# Altium footprint library Hardware.PcbLib: 23 footprints (part 1 of 2)
Each footprint in its own frame and in the unit in brackets; x right, y up, seen from the top. Pads: shape width x height; smd on the part's side, far side on the other; paste and mask are expansions set on the pad; w line width, h text height; cw(c..) or ccw(c..) is an arc to the next point about the centre after c.
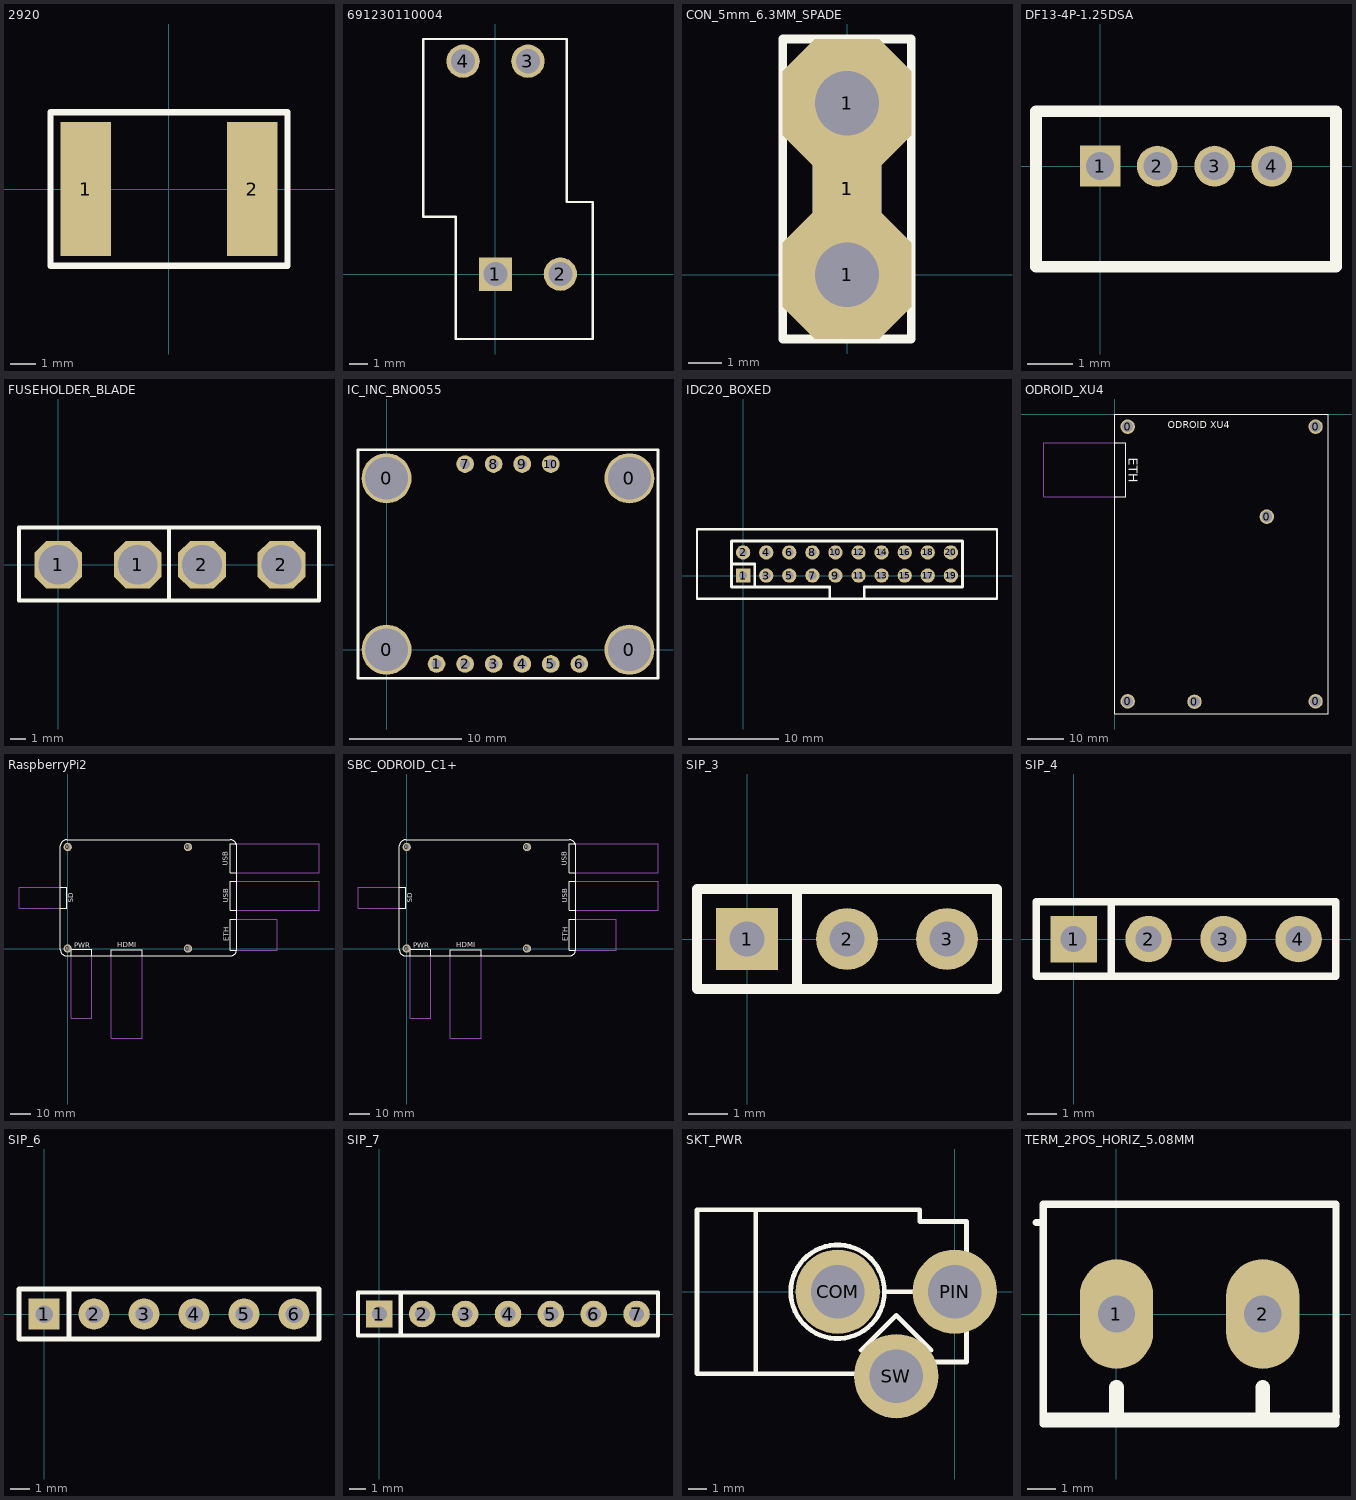
[diagram p0: the footprints below, top view; thin cyan lines are the x and y axes]

## 2920 [mm]
pads (2):
  rect 2x5.3 smd: 1(-3.3,0) 2(3.3,0)
Top Overlay:
  lines w0.254: -4.699,-3.048 4.699,-3.048 4.699,3.048 -4.699,3.048 -4.699,-3.048

## 691230110004 [mm] "3,50mm - modular - 2 rows - Right - horizontal entry with rising cage clamp - 04p"
height 16.2
pads (4):
  rect 1.8x1.8 hole 1.3: 1(0,0)
  round 1.8 hole 1.3: 2(3.5,0) 3(1.75,11.5) 4(-1.75,11.5)
Top Overlay:
  lines w0.127: -3.9,3.1 -3.9,12.7 3.85,12.7 3.85,3.9 5.25,3.9 5.25,-3.5 -2.15,-3.5 -2.15,3.1 -3.9,3.1
3D body: height 16.21, standoff -3.69, extent -3.9,-3.45 5.25,12.65

## CON_5mm_6.3MM_SPADE [mil]
pads (4):
  oct 150x150 hole 75: 1(0,0) 1(0,200)
  rect 80x200 smd: 1(0,100)
  rect 80x200 smd far side: 1(0,100)
Top Overlay:
  lines w10: -75,-75 -75,275 75,275 75,-75 -75,-75
  lines w20: 0,50 0,150

## DF13-4P-1.25DSA [mil]
pads (4):
  rect 35x35 hole 24: 1(0,0)
  round 35 hole 24: 2(49.21,0) 3(98.43,0) 4(147.64,0)
Top Overlay:
  lines w10: -55.12,-43.31 -55.12,47.24 ; 202.76,-43.31 202.76,47.24 ; -55.12,47.24 202.76,47.24 ; -55.12,47.24 -55.12,-86.61 202.76,-86.61 202.76,47.24

## FUSEHOLDER_BLADE [mil]
pads (4):
  oct 120x120 hole 100: 1(0,0) 1(200,0) 2(361.22,0) 2(561.22,0)
Top Overlay:
  lines w10: 278.54,-89.57 278.54,93.5 ; -98.43,-89.57 -98.43,93.5 655.51,93.5 655.51,-89.57 -98.43,-89.57

## IC_INC_BNO055 [mil]
pads (14):
  round 175 hole 150: 0(0,0) 0(0,600) 0(850.39,0) 0(850.39,600)
  round 62 hole 35: 1(175,-50) 2(275,-50) 3(375,-50) 4(475,-50) 5(575,-50) 6(675,-50) 7(275,650) 8(375,650) 9(475,650) 10(575,650)
Top Overlay:
  lines w10: -100,-100 950.39,-100 950.39,700 -100,700 -100,-100

## IDC20_BOXED [mil]
pads (20):
  rect 62x62 hole 35: 1(0,0)
  round 62 hole 35: 2(0,100) 3(100,0) 4(100,100) 5(200,0) 6(200,100) 7(300,0) 8(300,100) 9(400,0) 10(400,100) 11(500,0) 12(500,100) 13(600,0) 14(600,100) 15(700,0) 16(700,100) 17(800,0) 18(800,100) 19(900,0) 20(900,100)
Top Overlay:
  lines w10: -200,-100 1100,-100 1100,200 -200,200 -200,-100
  lines w12: -50,50 50,50 50,-50 ; 375,-100 375,-50 -50,-50 -50,150 950,150 950,-50 525,-50 525,-100

## ODROID_XU4 [mm]
pads (6):
  round 4 hole 3: 0(3.5,-79.5) 0(3.5,-3.5) 0(22,-79.61) 0(42,-28.39) 0(55.5,-79.5) 0(55.5,-3.5)
Top Overlay:
  lines w0.254: 0,-7.892 3,-7.892 3,-15.392 3,-22.892 ; 3,-22.892 0,-22.892 3,-22.892 ; 0,-83 59,-83 59,0 0,0 0,-83
  text "ETH" at 3.8,-12.112 h2.54
  text "ODROID XU4" at 14.6,-4 h1.91
Mechanical 3:
  lines w0.254: 0.31,-22.892 -19.69,-22.892 -19.69,-7.892 0.31,-7.892

## RaspberryPi2 [mm]
pads (4):
  round 4 hole 2.75: 0(0,0) 0(0,49) 0(58,0) 0(58,49)
Top Overlay:
  lines w0.254: -3.508,-0.5 ccw(c-0.508,-0.5) -0.508,-3.5 0,-3.5 78.5,-3.5 ccw(c78.5,-0.5) 81.5,-0.5 81.5,49.508 ccw(c78.5,49.508) 78.5,52.508 -0.5,52.508 ccw(c-0.5,49.508) -3.5,49.508 -3.5,-0.5 ; -0.5,52.5 0,52.5 ; 1.6,-0.254 6.6,-0.254 11.6,-0.254 11.6,-3.5 ; 1.61,-3.5 1.61,-0.254 ; 20.992,-3.5 20.992,-0.5 28.492,-0.5 35.992,-0.5 ; 81.5,-0.75 78.5,-0.75 78.5,6.75 78.5,14.25 ; 35.992,-0.5 35.992,-3.5 35.992,-0.5 ; 78.5,14.25 81.5,14.25 78.5,14.25 ; -3.5,19.5 -3.5,29.5 -0.508,29.5 -0.508,24.5 -0.508,19.5 -3.5,19.5 ; 78.5,18.5 78.5,25.5 78.5,32.5 81.5,32.5 81.5,18.5 78.5,18.5 ; 78.5,36.5 78.5,43.5 78.5,50.5 81.5,50.5 81.5,36.5 78.5,36.5
  text "PWR" at 3.1,0.47 h2.54
  text "HDMI" at 24.02,0.53 h2.54
  text "ETH" at 77.7,3.47 h2.54
  text "USB" at 77.22,40.01 h2.54
  text "USB" at 77.43,22.14 h2.54
  text "SD" at 2.77,22.07 h2.54
Mechanical 3:
  lines w0.254: -3.5,19.5 -23.5,19.5 -23.5,29.5 -3.5,29.5 ; 1.62,-3.5 1.62,-33.5 11.6,-33.5 11.6,-3.5 ; 20.992,-3.25 20.992,-43.25 35.992,-43.25 35.992,-3.25 ; 81.19,-0.75 101.19,-0.75 101.19,14.25 81.19,14.25 ; 81.25,18.5 121.25,18.5 121.25,32.5 81.25,32.5 ; 81.25,36.5 121.25,36.5 121.25,50.5 81.25,50.5

## SBC_ODROID_C1+ [mm]
pads (4):
  round 4 hole 2.75: 0(0,0) 0(0,49) 0(58,0) 0(58,49)
Top Overlay:
  lines w0.254: -3.508,-0.5 ccw(c-0.508,-0.5) -0.508,-3.5 0,-3.5 78.5,-3.5 ccw(c78.5,-0.5) 81.5,-0.5 81.5,49.508 ccw(c78.5,49.508) 78.5,52.508 -0.5,52.508 ccw(c-0.5,49.508) -3.5,49.508 -3.5,-0.5 ; -0.5,52.5 0,52.5 ; 1.6,-0.254 6.6,-0.254 11.6,-0.254 11.6,-3.5 ; 1.61,-3.5 1.61,-0.254 ; 20.992,-3.5 20.992,-0.5 28.492,-0.5 35.992,-0.5 ; 81.5,-0.75 78.5,-0.75 78.5,6.75 78.5,14.25 ; 35.992,-0.5 35.992,-3.5 35.992,-0.5 ; 78.5,14.25 81.5,14.25 78.5,14.25 ; -3.5,19.5 -3.5,29.5 -0.508,29.5 -0.508,24.5 -0.508,19.5 -3.5,19.5 ; 78.5,18.5 78.5,25.5 78.5,32.5 81.5,32.5 81.5,18.5 78.5,18.5 ; 78.5,36.5 78.5,43.5 78.5,50.5 81.5,50.5 81.5,36.5 78.5,36.5
  text "PWR" at 3.1,0.47 h2.54
  text "HDMI" at 24.02,0.53 h2.54
  text "ETH" at 77.7,3.47 h2.54
  text "USB" at 77.22,40.01 h2.54
  text "USB" at 77.43,22.14 h2.54
  text "SD" at 2.77,22.07 h2.54
Mechanical 3:
  lines w0.254: -3.5,19.5 -23.5,19.5 -23.5,29.5 -3.5,29.5 ; 1.62,-3.5 1.62,-33.5 11.6,-33.5 11.6,-3.5 ; 20.992,-3.25 20.992,-43.25 35.992,-43.25 35.992,-3.25 ; 81.19,-0.75 101.19,-0.75 101.19,14.25 81.19,14.25 ; 81.25,18.5 121.25,18.5 121.25,32.5 81.25,32.5 ; 81.25,36.5 121.25,36.5 121.25,50.5 81.25,50.5

## SIP_3 [mil]
pads (3):
  rect 62x62 hole 35: 1(0,0)
  round 62 hole 35: 2(100,0) 3(200,0)
Top Overlay:
  lines w10: 50,-50 50,50 ; -50,-50 250,-50 250,50 -50,50 -50,-50

## SIP_4 [mil]
pads (4):
  rect 62x62 hole 35: 1(0,0)
  round 62 hole 35: 2(100,0) 3(200,0) 4(300,0)
Top Overlay:
  lines w10: 50,-50 50,50 ; -50,-50 350,-50 350,50 -50,50 -50,-50

## SIP_6 [mil]
pads (6):
  rect 62x62 hole 35: 1(0,0)
  round 62 hole 35: 2(100,0) 3(200,0) 4(300,0) 5(400,0) 6(500,0)
Top Overlay:
  lines w10: 50,-50 50,50 ; -50,-50 -50,50 550,50 550,-50 -50,-50

## SIP_7 [mil]
pads (7):
  rect 62x62 hole 35: 1(0,0)
  round 62 hole 35: 2(100,0) 3(200,0) 4(300,0) 5(400,0) 6(500,0) 7(600,0)
Top Overlay:
  lines w10: 50,-50 50,50 ; -50,-50 -50,50 650,50 650,-50 -50,-50

## SKT_PWR [mil]
pads (3):
  round 180 hole 114: COM(-250,0) PIN(0,0) SW(-125,-180)
Top Overlay:
  circle w10: c-250,0 r100
  lines w10: -425,-175 -425,175 ; -200,-125 -125,-50 -50,-125 ; -150,0 -75,0 ; -550,-175 -75,-175 -75,-150 25,-150 25,-50 0,-50 0,50 25,50 25,150 -75,150 -75,175 -550,175 -550,-175

## TERM_2POS_HORIZ_5.08MM [mil]
pads (2):
  oval 100x150 hole 51: 1(0,0) 2(200,0)
Top Overlay:
  lines w10: -110,125 -100,125 ; -100,-150 300,-150 300,150 -100,150 -100,-150
  lines w11: -100,-140 300,-140
  lines w20: 0,-140 0,-100 ; 200,-140 200,-100